# Altium footprint library TSSOP-20_1.PcbLib: 1 footprints
Each footprint in its own frame and in the unit in brackets; x right, y up, seen from the top. Pads: shape width x height; smd on the part's side, far side on the other; paste and mask are expansions set on the pad; w line width, h text height; cw(c..) or ccw(c..) is an arc to the next point about the centre after c.
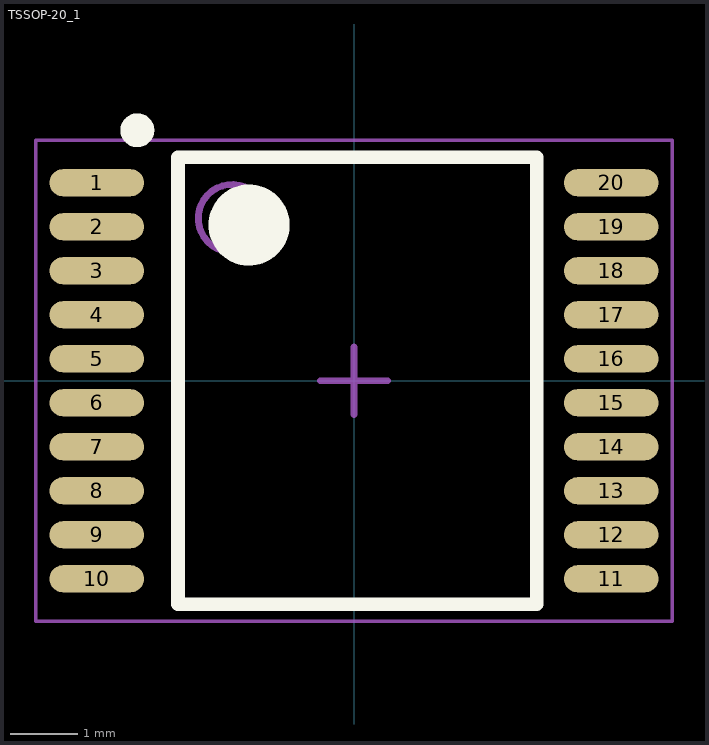
[diagram p0: the footprint, top view; thin cyan lines are the x and y axes]

## TSSOP-20_1 [mm] "TSOP, 20-Leads, Body 7.20x5.30mm, Pitch 0.65mm, IPC Medium Density"
height 1.2
pads (20):
  oval 1.4x0.4 smd mask+0.05: 1(-3.8,2.925) 2(-3.8,2.275) 3(-3.8,1.625) 4(-3.8,0.975) 5(-3.8,0.325) 6(-3.8,-0.325) 7(-3.8,-0.975) 8(-3.8,-1.625) 9(-3.8,-2.275) 10(-3.8,-2.925) 11(3.8,-2.925) 12(3.8,-2.275) 13(3.8,-1.625) 14(3.8,-0.975) 15(3.8,-0.325) 16(3.8,0.325) 17(3.8,0.975) 18(3.8,1.625) 19(3.8,2.275) 20(3.8,2.925)
Top Overlay:
  circle w0.6: c-1.55,2.3 r0.3
  circle w0.25: c-3.2,3.7 r0.125
  lines w0.2: -2.6,-3.3 2.7,-3.3 2.7,3.3 -2.6,3.3 -2.6,-3.3
Mechanical 13:
  circle w0.1: c-1.8,2.4 r0.5
  lines w0.1: -2.65,-3.3 2.65,-3.3 2.65,3.3 -2.65,3.3 -2.65,-3.3
Mechanical 15:
  lines w0.05: -4.7,-3.55 4.7,-3.55 4.7,3.55 -4.7,3.55 -4.7,-3.55
  lines w0.1: -0.5,0 0.5,0 ; 0,-0.5 0,0.5
3D body "TSSOP-20.stp": height 1.11, standoff 0.01, extent -3.215,-3.199 3.215,3.199